# EAGLE library part TPS70445_PWP_24 (library TPS70445_PWP_24)
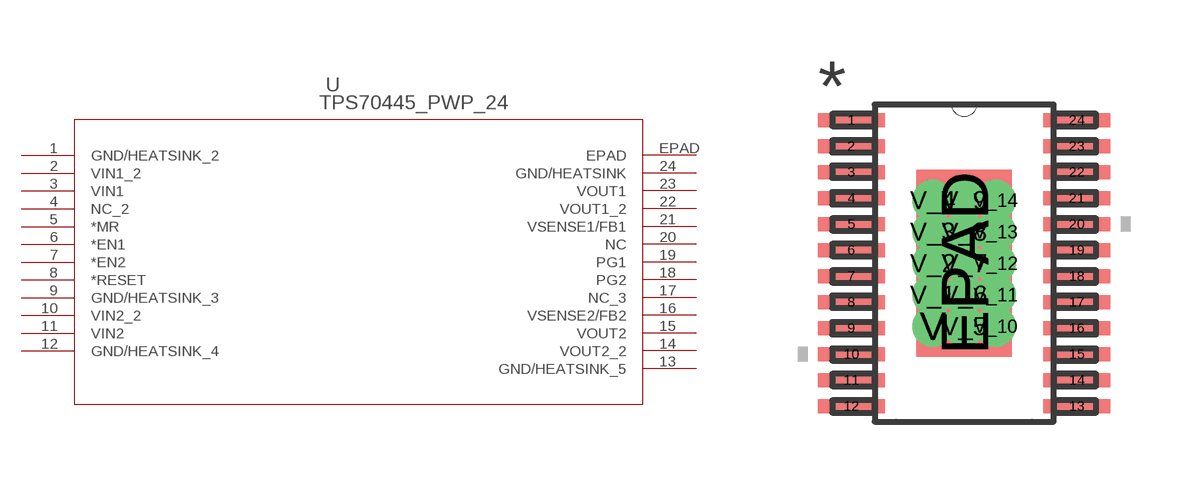
[diagram p0: symbol with the pads of PWP24_4P68X2P4; footprint PWP24_4P68X2P4]

Designator prefix U

## TPS70445_PWP_24 (DATASHEETURL: http://www.ti.com/lit/gpn/TPS70445; DESCRIPTION: Dual-output (3.3V/1.2V)1A/2A LDO Regulator with dual enables and SVS for split-voltage systems; FAMILY_NAME: DUAL CHANNEL LDO; GENERIC_PART_NUMBER: TPS70445; INDUSTRY_STD_PKG_TYPE: HTSSOP; MANUFACTURER: Texas Instruments; MANUFACTURER_PART_NUMBER: tps70445_pwp_24; PACKAGE_DESIGNATOR: PWP; PIN_COUNT: 24; VENDOR: Texas Instruments)  [PWP24_4P68X2P4]
1  GND/HEATSINK_2  pwr
2  VIN1_2  in
3  VIN1  in
4  NC_2  pas
5  *MR  in
6  *EN1  in
7  *EN2  in
8  *RESET  out
9  GND/HEATSINK_3  pwr
10  VIN2_2  in
11  VIN2  in
12  GND/HEATSINK_4  pwr
13  GND/HEATSINK_5  pwr
14  VOUT2_2  out
15  VOUT2  out
16  VSENSE2/FB2  in
17  NC_3  pas
18  PG2  out
19  PG1  out
20  NC  pas
21  VSENSE1/FB1  in
22  VOUT1_2  out
23  VOUT1  out
24  GND/HEATSINK  pwr
EPAD  EPAD  pas

## Footprint PWP24_4P68X2P4 (pad centres in mm)
smd 1.676 x 0.356: 1 -2.819,3.575; 2 -2.819,2.925; 3 -2.819,2.275; 4 -2.819,1.625; 5 -2.819,0.975; 6 -2.819,0.325; 7 -2.819,-0.325; 8 -2.819,-0.975; 9 -2.819,-1.625; 10 -2.819,-2.275; 11 -2.819,-2.925; 12 -2.819,-3.575; 13 2.819,-3.575; 14 2.819,-2.925; 15 2.819,-2.275; 16 2.819,-1.625; 17 2.819,-0.975; 18 2.819,-0.325; 19 2.819,0.325; 20 2.819,0.975; 21 2.819,1.625; 22 2.819,2.275; 23 2.819,2.925; 24 2.819,3.575
smd 2.388 x 4.674: EPAD 0,0
drill 0.508: V -0.787,-1.575; V_1 -0.787,-0.787; V_2 -0.787,0; V_3 -0.787,0.787; V_4 -0.787,1.575; V_5 0,-1.575; V_6 0,-0.787; V_7 0,0; V_8 0,0.787; V_9 0,1.575; V_10 0.787,-1.575; V_11 0.787,-0.787; V_12 0.787,0; V_13 0.787,0.787; V_14 0.787,1.575